# EAGLE library part MPU60X0 (library freeimu-components)
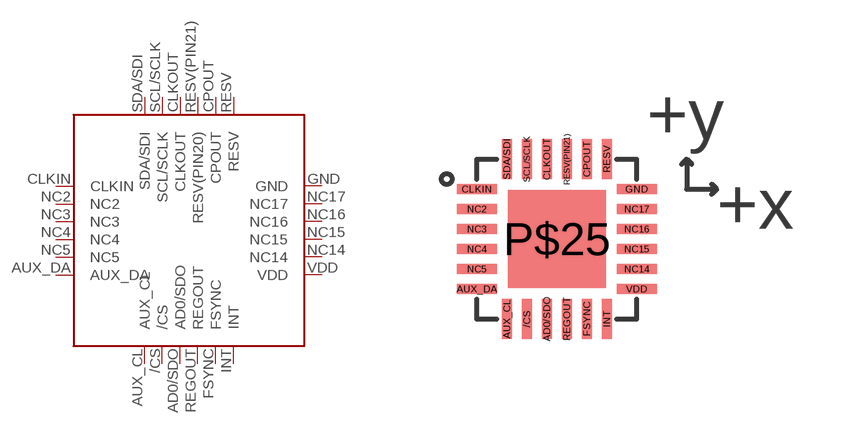
[diagram p2: symbol with the pads of MPU60X0; footprint MPU60X0]

Designator prefix -

## MPU60X0  [MPU60X0]
/CS  /CS
AD0/SDO  AD0/SDO
AUX_CL  AUX_CL
AUX_DA  AUX_DA
CLKIN  CLKIN
CLKOUT  CLKOUT
CPOUT  CPOUT
FSYNC  FSYNC
GND  GND
INT  INT
NC2  NC2
NC3  NC3
NC4  NC4
NC5  NC5
NC14  NC14
NC15  NC15
NC16  NC16
NC17  NC17
REGOUT  REGOUT
RESV  RESV
RESV(PIN21)  RESV(PIN20)
SCL/SCLK  SCL/SCLK
SDA/SDI  SDA/SDI
VDD  VDD

## Footprint MPU60X0 (pad centres in mm)
smd 0.25 x 1: /CS 1.25,0; AD0/SDO 1.75,0; AUX_CL 0.75,0; CLKOUT 1.75,4; CPOUT 2.75,4; FSYNC 2.75,0; INT 3.25,0; REGOUT 2.25,0; RESV 3.25,4; RESV(PIN21) 2.25,4; SCL/SCLK 1.25,4; SDA/SDI 0.75,4
smd 1 x 0.25: AUX_DA 0,0.75; CLKIN 0,3.25; GND 4,3.25; NC2 0,2.75; NC3 0,2.25; NC4 0,1.75; NC5 0,1.25; NC14 4,1.25; NC15 4,1.75; NC16 4,2.25; NC17 4,2.75; VDD 4,0.75
smd 2.45 x 2.45: P$25 2,2